# Altium schematic symbol library Analog IC other GOST.SchLib: 3 symbols
Pins are listed as number, name and electrical type; pins without a type are passive.

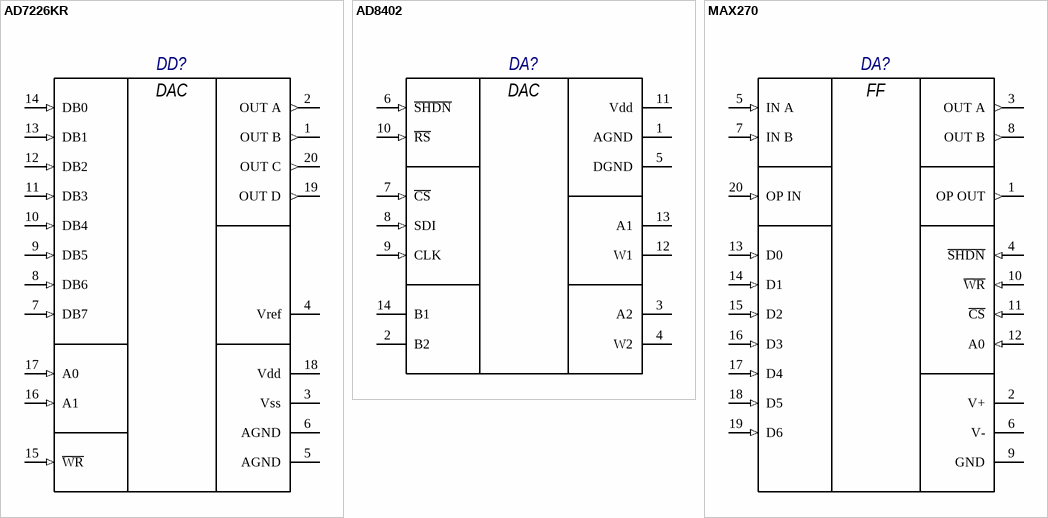
[diagram p0: symbols AD7226KR to MAX270]

## AD7226KR
designator DD?  (value not drawn)
Four 8-Bit DACs with Output Amplifiers
pins: 1 OUT B (out), 2 OUT A (out), 3 Vss (power), 4 Vref (power), 5 AGND (power), 6 AGND (power), 7 DB7 (in), 8 DB6 (in), 9 DB5 (in), 10 DB4 (in), 11 DB3 (in), 12 DB2 (in), 13 DB1 (in), 14 DB0 (in), 15 ~{WR} (in), 16 A1 (in), 17 A0 (in), 18 Vdd (power), 19 OUT D (out), 20 OUT C (out)
text: DAC

## AD8402
designator DA?, comment AD8402AR10  (value not drawn)
2-Channel / Digital Potentiometers
footprint SOIC-14 (Small Outline; 14 Leads; Body Width 3.9 mm; Pitch 1.27 mm)
pins: 1 AGND (power), 2 B2, 3 A2, 4 W2, 5 DGND (power), 6 ~{SHDN} (in), 7 ~{CS} (in), 8 SDI (in), 9 CLK (in), 10 ~{RS} (in), 11 Vdd (power), 12 W1, 13 A1, 14 B1
text: DAC

## MAX270
designator DA?  (value not drawn)
Digitally-Programmed, Dual / 2nd-Order Continuous Lowpass Filter
footprint SOIC-20W (SOIC, 20-Leads, Body 12,80x7,50mm, Pitch 1,27mm, IPC Medium Density)
pins: 1 OP OUT (out), 2 V+ (power), 3 OUT A (out), 4 ~{SHDN} (in), 5 IN A (in), 6 V- (power), 7 IN B (in), 8 OUT B (out), 9 GND (power), 10 ~{WR} (in), 11 ~{CS} (in), 12 A0 (in), 13 D0 (in), 14 D1 (in), 15 D2 (in), 16 D3 (in), 17 D4 (in), 18 D5 (in), 19 D6 (in), 20 OP IN (in)
text: FF